# EAGLE library part SWS005 (library smd-special)
SMD Dip Switch 5 pol.
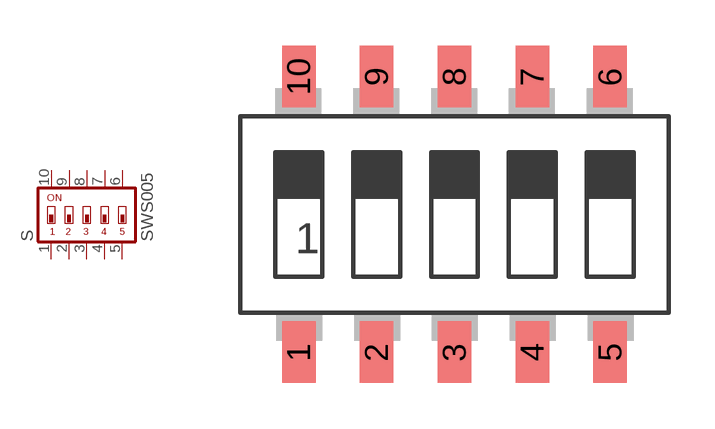
[diagram p5: symbol with the pads of SMS-005; footprint SMS-005]

Designator prefix S

## SWS005  [SMS-005]
1  1  pas
2  2  pas
3  3  pas
4  4  pas
5  5  pas
6  6  pas
7  7  pas
8  8  pas
9  9  pas
10  10  pas

## Footprint SMS-005 (pad centres in mm)
DIP SWITCH
smd 1.092 x 2.007: 1 -5.08,-4.496; 2 -2.54,-4.496; 3 0,-4.496; 4 2.54,-4.496; 5 5.08,-4.496; 6 5.08,4.496; 7 2.54,4.496; 8 0,4.496; 9 -2.54,4.496; 10 -5.08,4.496